# EAGLE library part MMU (library atari)
MMU
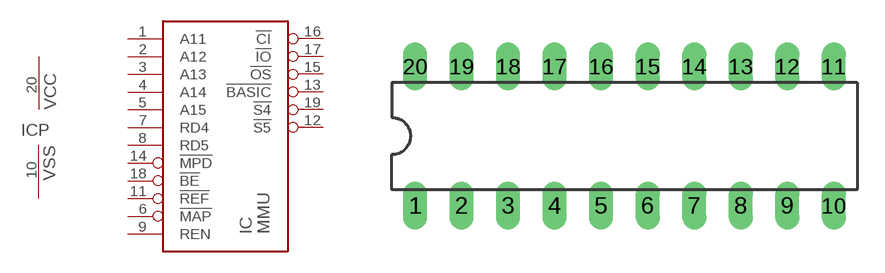
[diagram p14: symbol with the pads of DIL20; footprint DIL20]

Designator prefix IC; gates =MMU P=VCCVSS

## MMU  [DIL20]
1  :A11  in
2  :A12  in
3  :A13  in
4  :A14  in
5  :A15  in
6  :!MAP  in
7  :RD4  in
8  :RD5  in
9  :REN  in
10  P:VSS  pwr
11  :!REF  in
12  :!S5  out
13  :!BASIC  out
14  :!MPD  in
15  :!OS  out
16  :!CI  out
17  :!IO  out
18  :!BE  in
19  :!S4  out
20  P:VCC  pwr

## Footprint DIL20 (pad centres in mm)
drill 0.813 long: 1 -11.43,-3.81; 2 -8.89,-3.81; 3 -6.35,-3.81; 4 -3.81,-3.81; 5 -1.27,-3.81; 6 1.27,-3.81; 7 3.81,-3.81; 8 6.35,-3.81; 9 8.89,-3.81; 10 11.43,-3.81; 11 11.43,3.81; 12 8.89,3.81; 13 6.35,3.81; 14 3.81,3.81; 15 1.27,3.81; 16 -1.27,3.81; 17 -3.81,3.81; 18 -6.35,3.81; 19 -8.89,3.81; 20 -11.43,3.81